# Altium schematic symbol library Bourns.SCHLIB: 1 symbol
Pins are listed as number, name and electrical type; pins without a type are passive.

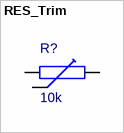
[diagram p0: symbol RES_Trim]

## RES_Trim
designator R?, comment 10k
Resistor Trimmer; Part_Number: RES_Trim_Bourns3296; Part Description: Trimmer, Bourns 3296 0.5W; Mfr Part Number: Bourns 3296Y-1-xxxLF; Validated: False; Type: RES; Distributor info: RS 3296Y-1-xxxLF (1k=3296Y-1-102LF); Price: 2,03; ComponentLink1Description: Manufacturer; ComponentLink1URL: http://bourns.de/; Creation Date: 05.12.2011; IPC: False; Value: 10k
footprint Trim_Bourns3296
pins: 1, 2, 3